# Altium schematic symbol library RAC02.SchLib: 1 symbol
Pins are listed as number, name and electrical type; pins without a type are passive.

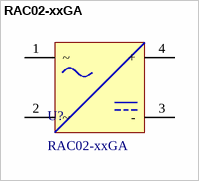
[diagram p0: symbol RAC02-xxGA]

## RAC02-xxGA
designator U?
AC/DC Converter - 2 Watt, Single Output
footprint RAC02-xxGA
pins: 1 ~ (power), 2 ~ (power), 3 - (power), 4 + (power)